# Altium schematic symbol library PARTS.SchLib: 44 symbols
Pins are listed as number, name and electrical type; pins without a type are passive.

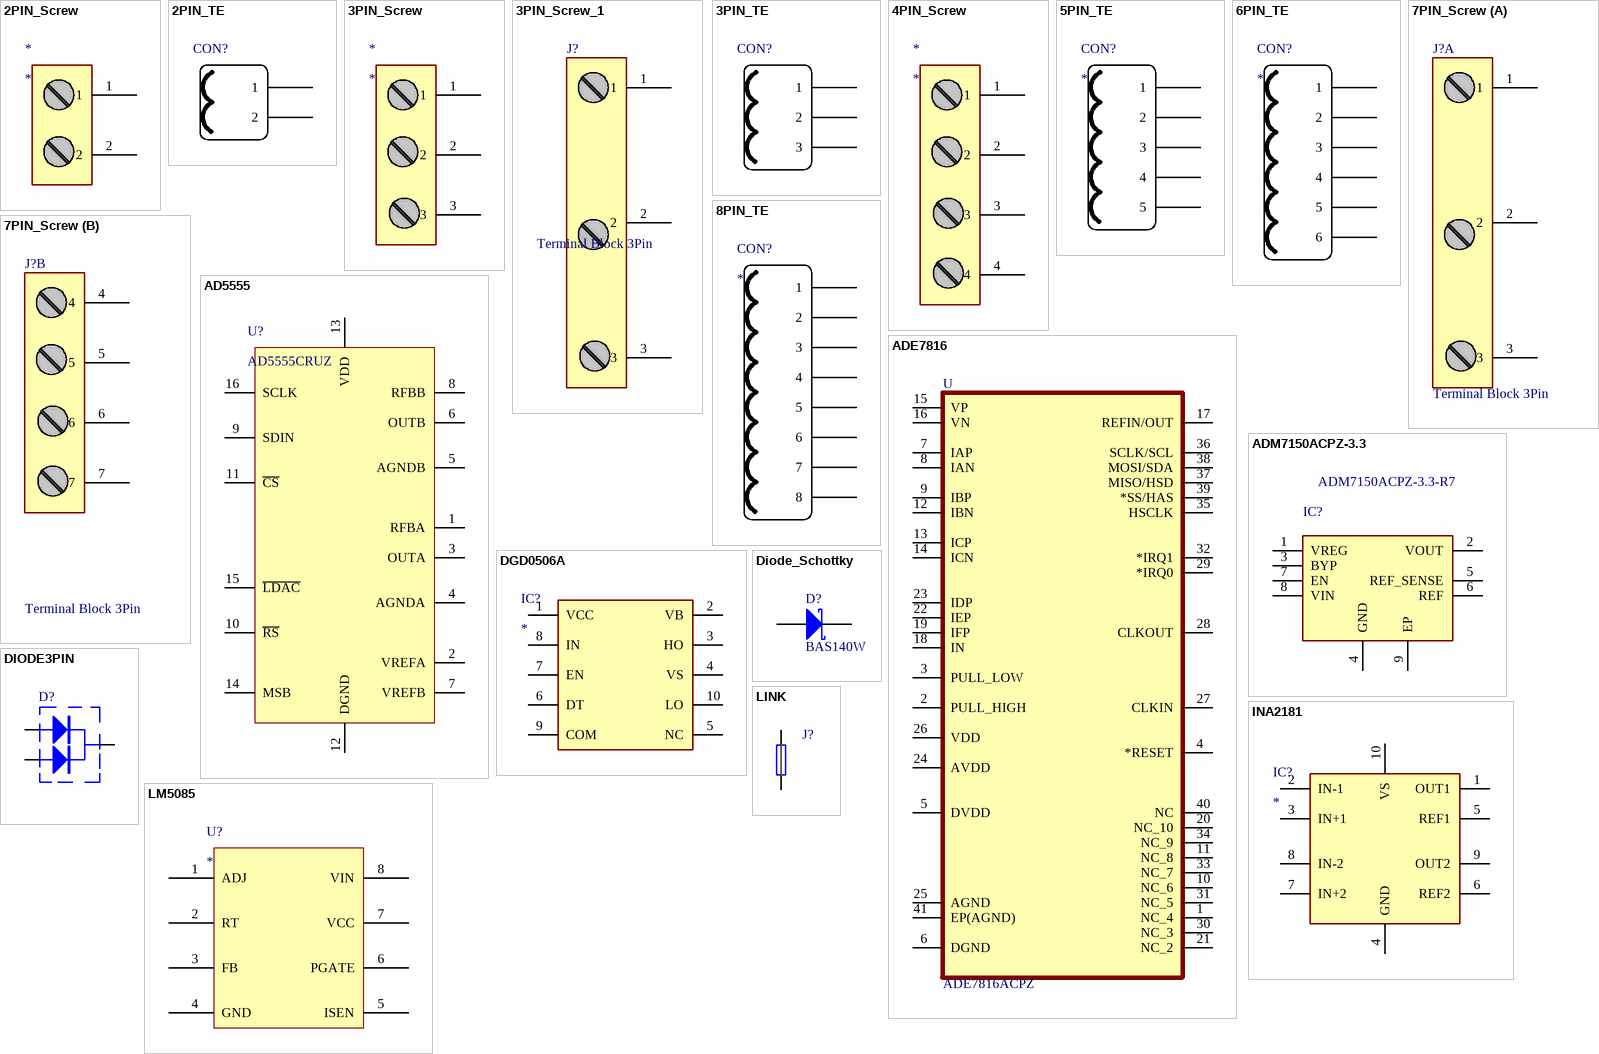
[diagram p0: symbols 2PIN_Screw to LM5085]

## 2PIN_Screw
designator *
pins: 1, 2

## 2PIN_TE
designator CON?
pins: 1, 2

## 3PIN_Screw
designator *
pins: 1, 2, 3

## 3PIN_Screw_1
designator J?, comment Terminal Block 3Pin
Terminal Block 3Pin,  Screw wire , 7.62mm; Manufacturer: Na; Manufacture Description: Terminal Block 3Pin,  Screw wire , 7.62mm; Package: 7.62mm
footprint TerminalBlock3
pins: 1, 2, 3

## 3PIN_TE
designator CON?
pins: 1, 2, 3

## 4PIN_Screw
designator *
pins: 1, 2, 3, 4

## 5PIN_TE
designator CON?
pins: 1, 2, 3, 4, 5

## 6PIN_TE
designator CON?
pins: 1, 2, 3, 4, 5, 6

## 7PIN_Screw
designator J?, comment Terminal Block 3Pin
Terminal Block 3Pin,  Screw wire , 7.62mm; Manufacturer: Na; Manufacture Description: Terminal Block 3Pin,  Screw wire , 7.62mm; Package: 7.62mm
footprint TerminalBlock7_0.375
part A pins: 1, 2, 3
part B pins: 4, 5, 6, 7

## 8PIN_TE
designator CON?
pins: 1, 2, 3, 4, 5, 6, 7, 8

## AD5555
designator U?, comment AD5555CRUZ
IC DAC 14BIT A-OUT 16TSSOP
pins: 1 RFBA, 2 VREFA, 3 OUTA, 4 AGNDA, 5 AGNDB, 6 OUTB, 7 VREFB, 8 RFBB, 9 SDIN, 10 ~{RS}, 11 ~{CS}, 12 DGND (power), 13 VDD (power), 14 MSB (power), 15 ~{LDAC} (power), 16 SCLK (power)

## ADE7816
designator U, comment ADE7816ACPZ
Single Phase Meter IC 40-LFCSP-WQ _6x6_; MF: Analog Devices; Package: LFCSP -40 Analog Devices; Value: *; Availability: Unavailable; MP: ADE7816ACPZ; SnapEDA_Link: https://www.snapeda.com/parts/ADE7816ACPZ/Analog%20Devices%20Inc./view-part/431922/?ref=snap; Price: None
footprint QFN50P600X600X80-41N
pins: 1 NC_4, 2 PULL_HIGH, 3 PULL_LOW, 4 *RESET, 5 DVDD, 6 DGND, 7 IAP, 8 IAN, 9 IBP, 10 NC_6, 11 NC_8, 12 IBN, 13 ICP, 14 ICN, 15 VP, 16 VN, 17 REFIN/OUT, 18 IN, 19 IFP, 20 NC_10, 21 NC_2, 22 IEP, 23 IDP, 24 AVDD, 25 AGND, 26 VDD, 27 CLKIN, 28 CLKOUT, 29 *IRQ0, 30 NC_3, 31 NC_5, 32 *IRQ1, 33 NC_7, 34 NC_9, 35 HSCLK, 36 SCLK/SCL, 37 MISO/HSD, 38 MOSI/SDA, 39 *SS/HAS, 40 NC, 41 EP(AGND)

## ADM7150ACPZ-3.3
designator IC?, comment ADM7150ACPZ-3.3-R7
Integrated Circuit; Manufacturer_Name: Analog Devices; Datasheet Link: http://www.analog.com/media/en/technical-documentation/data-sheets/ADM7150.pdf; Height: 0.85mm; Manufacturer_Part_Number: ADM7150ACPZ-3.3-R7; Mouser Part Number: 584-ADM7150ACPZ3.3R7; Mouser Price/Stock: https://www.mouser.co.uk/ProductDetail/Analog-Devices/ADM7150ACPZ-3.3-R7?qs=J50fqX%2Fl9iolnymw41jRZg%3D%3D; Arrow Part Number: ADM7150ACPZ-3.3-R7; Arrow Price/Stock: https://www.arrow.com/en/products/adm7150acpz-3.3-r7/analog-devices
footprint SON50P300X300X85-9N-D
pins: 1 VREG, 2 VOUT, 3 BYP, 4 GND, 5 REF_SENSE, 6 REF, 7 EN, 8 VIN, 9 EP

## DGD0506A
designator IC?
Integrated Circuit; Manufacturer_Name: Diodes Inc.; Manufacturer_Part_Number: DGD0506AM10-13; Datasheet Link: https://www.diodes.com/assets/Datasheets/DGD0506A.pdf; Height: 1.1mm; Arrow Part Number: DGD0506AM10-13; Arrow Price/Stock: https://www.arrow.com/en/products/dgd0506am10-13/diodes-incorporated; Mouser Part Number: 621-DGD0506AM10-13; Mouser Price/Stock: https://www.mouser.co.uk/ProductDetail/Diodes-Incorporated/DGD0506AM10-13?qs=y6ZabgHbY%252BxfhEBeCGJKVw%3D%3D
footprint SOP50P490X110-10N
pins: 1 VCC, 2 VB, 3 HO, 4 VS, 5 NC, 6 DT, 7 EN, 8 IN, 9 COM, 10 LO

## DIODE3PIN
designator D?
footprint TO263-3M (D2-PAK, 4-Leads, Body 9.4x10.2mm, Pitch 2.54mm, Lead Span 14.3mm, IPC Low Density)
pins: 1 A1, 3 A2, 4 K

## Diode_Schottky
designator D?, comment BAS140W
Silicon AF Schottky Diode for High-Speed Switching; Published: 21-Mar-2003; LatestRevisionDate: 19-Mar-2004; LatestRevisionNote: Silkscreen size reduced.; DatasheetDocument: Oct-1999; PackageDocument: Sep-2000; PackageReference: SOD-323; Publisher: Altium Limited; ComponentLink1Description: Manufacturer Link; ComponentLink1URL: http://www.infineon.com/; ComponentLink2Description: Datasheet; ComponentLink2URL: http://www.infineon.com/upload/Document/cmc_upload/documents/009/386/bas70_bas170series_1.pdf
footprint SOD-323 (SOD-323/SC-76; 2 Leads; Body 1.7 x 1.3 mm, (LxW))
pins: 1 A, 2 K

## INA2181
designator IC?
Integrated Circuit; Manufacturer_Name: Texas Instruments; Manufacturer_Part_Number: PINA2181A2IDGSR; Datasheet Link: http://www.ti.com/lit/gpn/ina2181; Height: 1.1mm; Arrow Part Number: PINA2181A2IDGSR; Mouser Part Number: 595-PINA2181A2IDGSR; Mouser Price/Stock: https://www.mouser.com/Search/Refine.aspx?Keyword=595-PINA2181A2IDGSR
footprint SOP50P490X110-10N
pins: 1 OUT1, 2 IN-1, 3 IN+1, 4 GND, 5 REF1, 6 REF2, 7 IN+2, 8 IN-2, 9 OUT2, 10 VS

## LINK
designator J?
Manufacturer: Na; Manufacture Description: Resistor 0.5 OHM SMD; Value: 0.5 OHM; Package: 2010
footprint RESC5025(2010)
pins: 1, 2

## LM5085
designator U?
pins: 1 ADJ, 2 RT, 3 FB, 4 GND, 5 ISEN, 6 PGATE, 7 VCC, 8 VIN

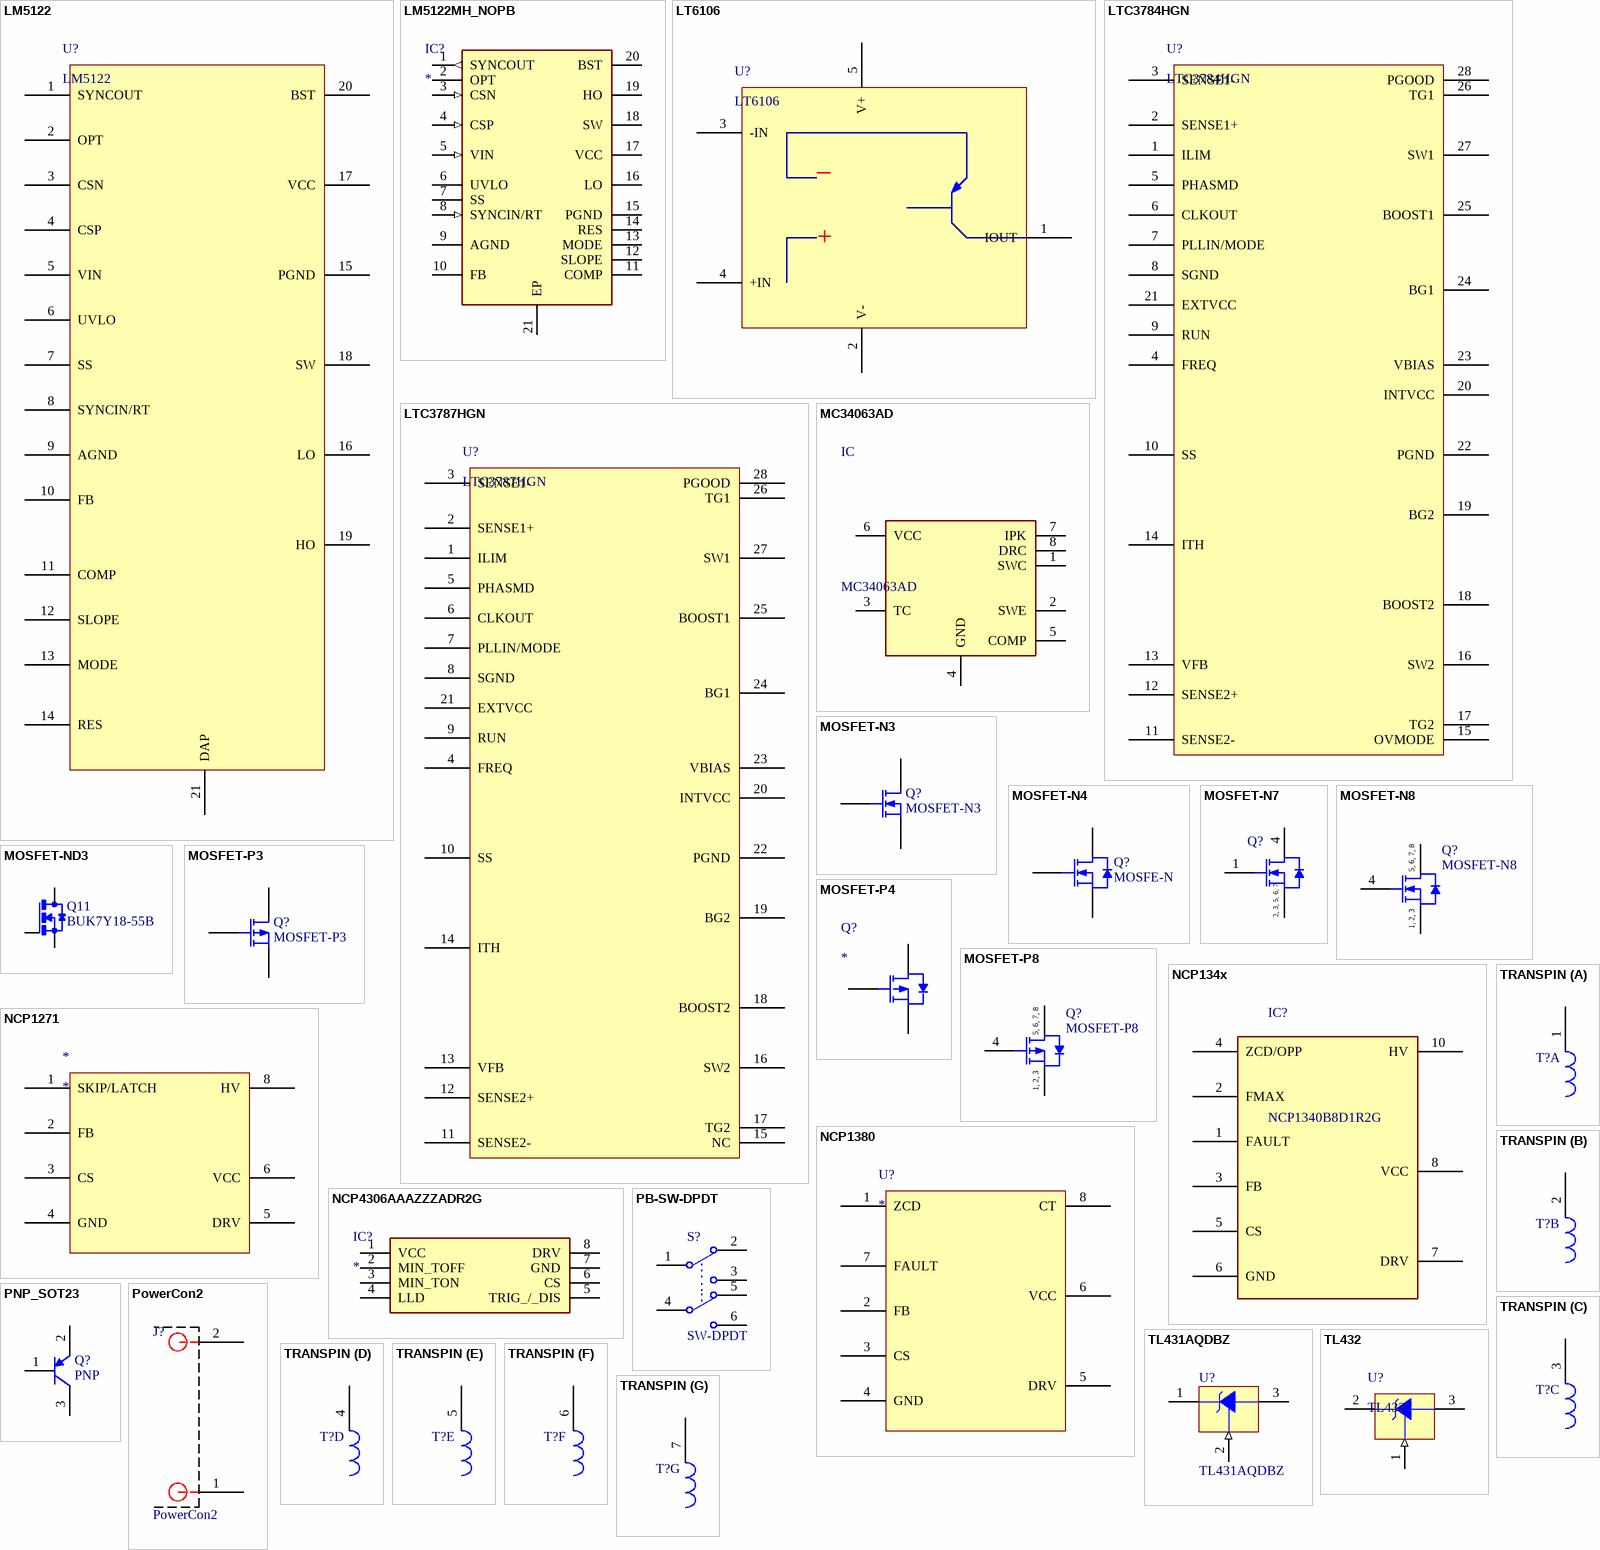
[diagram p1: symbols LM5122 to TRANSPIN]

## LM5122
designator U?
footprint HTSSOP20
pins: 1 SYNCOUT, 2 OPT, 3 CSN, 4 CSP, 5 VIN, 6 UVLO, 7 SS, 8 SYNCIN/RT, 9 AGND, 10 FB, 11 COMP, 12 SLOPE, 13 MODE, 14 RES, 15 PGND, 16 LO, 17 VCC, 18 SW, 19 HO, 20 BST, 21 DAP

## LM5122MH_NOPB
designator IC?
Integrated Circuit; Manufacturer_Name: Texas Instruments; Manufacturer_Part_Number: LM5122MH/NOPB; Datasheet Link: http://docs-emea.rs-online.com/webdocs/1323/0900766b813234ea.pdf; Height: 1.1mm; Arrow Part Number: LM5122MH/NOPB; Arrow Price/Stock: https://www.arrow.com/en/products/lm5122mhnopb/texas-instruments; Mouser Part Number: 595-LM5122MH/NOPB; Mouser Price/Stock: https://www.mouser.co.uk/ProductDetail/Texas-Instruments/LM5122MH-NOPB?qs=iIeLWXrA%252B1WObMiZ4L5hVQ%3D%3D
footprint SOP65P640X110-21N
pins: 1 SYNCOUT (out), 2 OPT, 3 CSN (in), 4 CSP (in), 5 VIN (in), 6 UVLO, 7 SS, 8 SYNCIN/RT (in), 9 AGND (power), 10 FB, 11 COMP, 12 SLOPE, 13 MODE, 14 RES, 15 PGND (power), 16 LO, 17 VCC (power), 18 SW, 19 HO, 20 BST, 21 EP

## LT6106
designator U?
High Side  Current Sense
footprint SOT-23-5 (SOT-23/SC-74A; 5 Leads; Body 3.1 x 3.1 mm, inc. leads (LxW max))
pins: 1 IOUT, 2 V-, 3 -IN, 4 +IN, 5 V+
text: _; +

## LTC3784HGN
designator U?
PolyPhase Synchronous  Boost Controller
footprint SSOP-28
pins: 1 ILIM, 2 SENSE1+, 3 SENSE1-, 4 FREQ, 5 PHASMD, 6 CLKOUT, 7 PLLIN/MODE, 8 SGND, 9 RUN, 10 SS, 11 SENSE2-, 12 SENSE2+, 13 VFB, 14 ITH, 15 OVMODE, 16 SW2, 17 TG2, 18 BOOST2, 19 BG2, 20 INTVCC, 21 EXTVCC, 22 PGND, 23 VBIAS, 24 BG1, 25 BOOST1, 26 TG1, 27 SW1, 28 PGOOD

## LTC3787HGN
designator U?
PolyPhase Synchronous  Boost Controller
footprint SSOP-28
pins: 1 ILIM, 2 SENSE1+, 3 SENSE1-, 4 FREQ, 5 PHASMD, 6 CLKOUT, 7 PLLIN/MODE, 8 SGND, 9 RUN, 10 SS, 11 SENSE2-, 12 SENSE2+, 13 VFB, 14 ITH, 15 NC, 16 SW2, 17 TG2, 18 BOOST2, 19 BG2, 20 INTVCC, 21 EXTVCC, 22 PGND, 23 VBIAS, 24 BG1, 25 BOOST1, 26 TG1, 27 SW1, 28 PGOOD

## MC34063AD
designator IC
Buck, Boost Switching Regulator IC Positive or Negative Adjustable 1.25V 1 Output 1.5A _Switch_ 8-SOIC _0.154, 3.90mm Width_; MF: Texas Instruments; Package: SOIC-8 Texas Instruments; MP: MC34063A; Availability: Unavailable; Price: None; Value: *; SnapEDA_Link: https://www.snapeda.com/parts/MC34063A/Texas%20Instruments/view-part/581314/?ref=snap
footprint SO08
pins: 1 SWC (power), 2 SWE (power), 3 TC, 4 GND (power), 5 COMP (power), 6 VCC (power), 7 IPK (power), 8 DRC (power)

## MOSFET-N3
designator Q?
N-Channel MOSFET
footprint SOT23-3M (SOT23, 3-Leads, Body 2.9x1.3mm, Pitch 0.95mm, Lead Span 2.5mm, IPC Low Density)
pins: 1 G, 2 S, 3 D

## MOSFET-N4
designator Q?, comment MOSFE-N
Silicon N-Channel MOSFET, High Speed Power Switching
footprint PRSS0004AE-B_L (TO, 4-Leads, Body 8.6x10.2mm, Pitch 2.54mm, Lead Span 12.8mm, IPC High Density)
footprint PRSS0004AE-B_M (TO, 4-Leads, Body 8.6x10.2mm, Pitch 2.54mm, Lead Span 12.8mm, IPC Low Density)
pins: 1 G, 3 S, 4 D

## MOSFET-N7
designator Q?
Power Mosfet; Manufacturer: Infineon; PartNumber: IPB180N04S4-H0; Green: TRUE; ID (max): 180 A; IDpuls (max): 720 A; Packing: Reel; Ptot (max): 250 W; QG: 173 nC; RDS (on) (max) (@10V): 1.1 mOhm; RthJC (max): 0.6 K/W; VDS (max): 40 V; VGS(th) (max): 4 V; VGS(th) (min): 2 V; DatasheetVersion: Rev. 1.0; PackageReference: PG-TO263-7-3; PackageDescription: 7-Pin Plastic (Green) Transistor Single Outline Package, 10 x 9.25 mm Body, 1.27 mm Pitch; Supplier 1: Digi-Key; Supplier Part Number 1: IPB180N04S4-H0-ND; Supplier 2: Mouser; Supplier Part Number 2: 726-IPB180N04S4-H0; Halogen-free: TRUE; Technology: OptiMOS-T2; Mounting Technology: Surface Mount; ComponentLink1Description: Manufacturer URL; ComponentLink1URL: http://www.infineon.com/; ComponentLink2Description: Datasheet; ComponentLink2URL: http://www.infineon.com/dgdl/IPB180N04S4-H0_DS_1_0.pdf?folderId=db3a304412b407950112b42b75b74520&fileId=db3a304328c6bd5c01291c4975375d77&location=en.Products.Automotive_ICs.Automotive_MOSFETs.Single__N-Channel_40V_MOSFETs.DATASHEET.IPB180N04S4-H0_DS_1_0.pdf; ComponentLink3Description: Package Specification; ComponentLink3URL: http://www.infineon.com/cms/packages/SMD_-_Surface_Mounted_Devices/P-PG-TO263/P-TO263-07-02x_-3.html?__locale=en
footprint INF-PG-TO263-7-3_N (DPAK, 7-Leads, Body 10x9.25mm, Pitch 1.27mm, IPC Medium Density)
footprint INF-PG-TO263-7-3_L (DPAK, 7-Leads, Body 10x9.25mm, Pitch 1.27mm, IPC High Density)
footprint INF-PG-TO263-7-3_M (DPAK, 7-Leads, Body 10x9.25mm, Pitch 1.27mm, IPC Low Density)
pins: 1 GATE, 2 SOURCE, 3 SOURCE, 4 DRAIN, 5 SOURCE, 6 SOURCE, 7 SOURCE
text: 2, 3, 5, 6, 7

## MOSFET-N8
designator Q?
N-Channel 60V (D-S) Rated  MOSFET
footprint SO8-M (SOIC, 8-Leads, Body 4.9x3.9mm, Pitch 1.27mm, IPC Low Density)
footprint SO-8_L (SOIC, 8-Leads, Body 4.9x3.9mm, Pitch 1.27mm, IPC High Density)
footprint SO-8_M (SOIC, 8-Leads, Body 4.9x3.9mm, Pitch 1.27mm, IPC Low Density)
pins: 1 S, 2 S, 3 S, 4 G, 5 D, 6 D, 7 D, 8 D
text: 5, 6, 7, 8; 1, 2, 3

## MOSFET-ND3
designator Q11, comment BUK7Y18-55B
MOSFET N-CH 55V 47.4A LFPAK; Manufacturer: NXP Semiconductors; Value: BUK7Y18-55B,115; Package: SOT669(LFPAK); Manufacturer #: BUK7Y18-55B; DIGI-KEY #: BUK7Y18-55B,115; Manufacture Description: MOSFET N-CH 55V 47.4A LFPAK
footprint SOT669(LFPAK)
pins: 1 G, 2 D, 3 S

## MOSFET-P3
designator Q?
P-Channel MOSFET
footprint SOT23-3M (SOT23, 3-Leads, Body 2.9x1.3mm, Pitch 0.95mm, Lead Span 2.5mm, IPC Low Density)
pins: 1 G, 2 S, 3 D

## MOSFET-P4
designator Q?
footprint TO263-3M (D2-PAK, 4-Leads, Body 9.4x10.2mm, Pitch 2.54mm, Lead Span 14.3mm, IPC Low Density)
pins: 1 G, 3 S, 4 D

## MOSFET-P8
designator Q?
P-Channel  SO8  MOSFET
footprint SO8-M (SOIC, 8-Leads, Body 4.9x3.9mm, Pitch 1.27mm, IPC Low Density)
footprint SO-8_L (SOIC, 8-Leads, Body 4.9x3.9mm, Pitch 1.27mm, IPC High Density)
footprint SO-8_M (SOIC, 8-Leads, Body 4.9x3.9mm, Pitch 1.27mm, IPC Low Density)
pins: 1 S, 2 S, 3 S, 4 G, 5 D, 6 D, 7 D, 8 D
text: 5, 6, 7, 8; 1, 2, 3

## NCP134x
designator IC?, comment NCP1340B8D1R2G
Integrated Circuit; Manufacturer_Name: ON Semiconductor; Datasheet Link: https://www.onsemi.jp/pub/Collateral/NCP1340-D.PDF; Height: 2mm; Manufacturer_Part_Number: NCP1340B8D1R2G; Mouser Part Number: 863-NCP1340B8D1R2G; Mouser Price/Stock: https://www.mouser.co.uk/ProductDetail/onsemi/NCP1340B8D1R2G?qs=xZ%2FP%252Ba9zWqZEC%252BLKQMOLtw%3D%3D
footprint NCP1340B8D1R2G
pins: 1 FAULT, 2 FMAX, 3 FB, 4 ZCD/OPP, 5 CS, 6 GND, 7 DRV, 8 VCC, 10 HV

## NCP1271
designator *
pins: 1 SKIP/LATCH, 2 FB, 3 CS, 4 GND, 5 DRV, 6 VCC, 8 HV

## NCP1380
designator U?
footprint SOIC8
pins: 1 ZCD, 2 FB, 3 CS, 4 GND, 5 DRV, 6 VCC, 7 FAULT, 8 CT

## NCP4306AAAZZZADR2G
designator IC?
Integrated Circuit; Manufacturer_Name: ON Semiconductor; Manufacturer_Part_Number: NCP4306AAAZZZADR2G; Datasheet Link: https://datasheet.octopart.com/NCP4306AAHZZZADR2G-ON-Semiconductor-datasheet-99655382.pdf; Height: 1.75mm; Arrow Part Number: NCP4306AAAZZZADR2G; Arrow Price/Stock: https://www.arrow.com/en/products/ncp4306aaazzzadr2g/on-semiconductor; Mouser Part Number: 863-NCP4306AAAZADR2G; Mouser Price/Stock: https://www.mouser.co.uk/ProductDetail/ON-Semiconductor/NCP4306AAAZZZADR2G?qs=f9yNj16SXrK2QBGM%2FgfwmQ%3D%3D
footprint SOIC127P600X175-8N
pins: 1 VCC, 2 MIN_TOFF, 3 MIN_TON, 4 LLD, 5 TRIG_/_DIS, 6 CS, 7 GND, 8 DRV

## PB-SW-DPDT
designator S?, comment SW-DPDT
Double-Pole, Double-Throw Switch; Published: 24-Mar-1999; LatestRevisionDate: 17-Jul-2002; LatestRevisionNote: Re-released for DXP Platform.; PackageReference: DPDT-6; Publisher: Altium Limited; PackageDescription: Switch; 6 Leads
footprint DPDT-6 (Switch; 6 Leads)
pins: 1, 2, 3, 4, 5, 6

## PNP_SOT23
designator Q?, comment PNP
PNP Bipolar Transistor; Published: 8-Jun-2000; LatestRevisionDate: 29-May-2009; LatestRevisionNote: IPC-7351 Footprint Added.; PackageVersion: Aug-1999; PackageReference: SOT-23B; Publisher: Altium Limited; PackageDescription: 3-Pin SOT-23 Package 0.95 mm Pitch, 2.4 mm Lead Span
footprint SOT-23B_N (SOT23, 3-Leads, Body 2.9x1.3mm, Pitch 0.95mm, Lead Span 2.4mm, IPC Medium Density)
footprint SOT-23B_L (SOT23, 3-Leads, Body 2.9x1.3mm, Pitch 0.95mm, Lead Span 2.4mm, IPC High Density)
footprint SOT-23B_M (SOT23, 3-Leads, Body 2.9x1.3mm, Pitch 0.95mm, Lead Span 2.4mm, IPC Low Density)
simulation model PNP
signal-integrity model PNP
pins: 1 B, 2 E, 3 C

## PowerCon2
designator J?
CONN HEADER VERT 2POS 3.96MM; Manufacturer #: 1744017-2; Manufacturer: TE Connectivity AMP Connectors; Value: 1744017-2; DIGI-KEY #: A128186-ND; Manufacture Description: CONN HEADER VERT 2POS 3.96MM; Package: 3.96mm Pitch
footprint POWERCON2
pins: 1, 2

## TL431AQDBZ
designator U?
Programmable Precision Reference; Published: 15-Apr-2002; DatasheetVersion: 1999; PackageVersion: 1996; PackageReference: 29-04; Publisher: Altium Limited; PackageDescription: TO, Flat Index; 3 In-Line, Axial Leads; Body Dia. 4.8mm; Leads 0.48 x 0.51 mm (max); ComponentLink1Description: Manufacturer Link; ComponentLink1URL: http://www.onsemi.com/site/products/taxonomy/0,4438,503,00.html; ComponentLink2Description: Datasheet; ComponentLink2URL: http://www.onsemi.com/pub/Collateral/TL431-D.PDF
footprint SOT23-3M (SOT23, 3-Leads, Body 2.9x1.3mm, Pitch 0.95mm, Lead Span 2.5mm, IPC Low Density)
footprint SOT23-3M (SOT23, 3-Leads, Body 2.9x1.3mm, Pitch 0.95mm, Lead Span 2.5mm, IPC Low Density)
pins: 1 K, 2 REF (in), 3 A

## TL432
designator U?
Programmable Precision Reference 1.25
footprint SOT23-3M (SOT23, 3-Leads, Body 2.9x1.3mm, Pitch 0.95mm, Lead Span 2.5mm, IPC Low Density)
pins: 1 REF (in), 2 K, 3 A

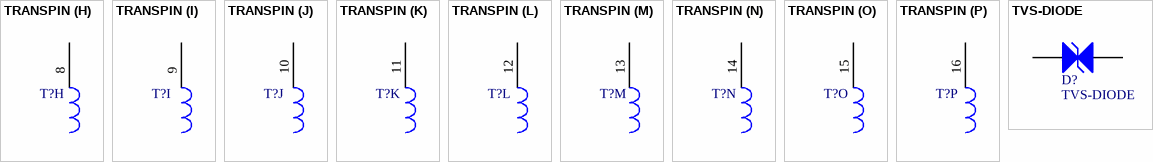
[diagram p2: symbols TRANSPIN to TVS-DIODE]

## TRANSPIN
designator T?
part A pins: 1
part B pins: 2
part C pins: 3
part D pins: 4
part E pins: 5
part F pins: 6
part G pins: 7
part H pins: 8
part I pins: 9
part J pins: 10
part K pins: 11
part L pins: 12
part M pins: 13
part N pins: 14
part O pins: 15
part P pins: 16

## TVS-DIODE
designator D?
Dual Surface Mount Zener Diode
footprint DO-214/SMC (5 to 170 V/1500W Fec: 9885668)
pins: 1 A1, 2 A2